# EAGLE library part HTOL_CARDEDGE (library connector)
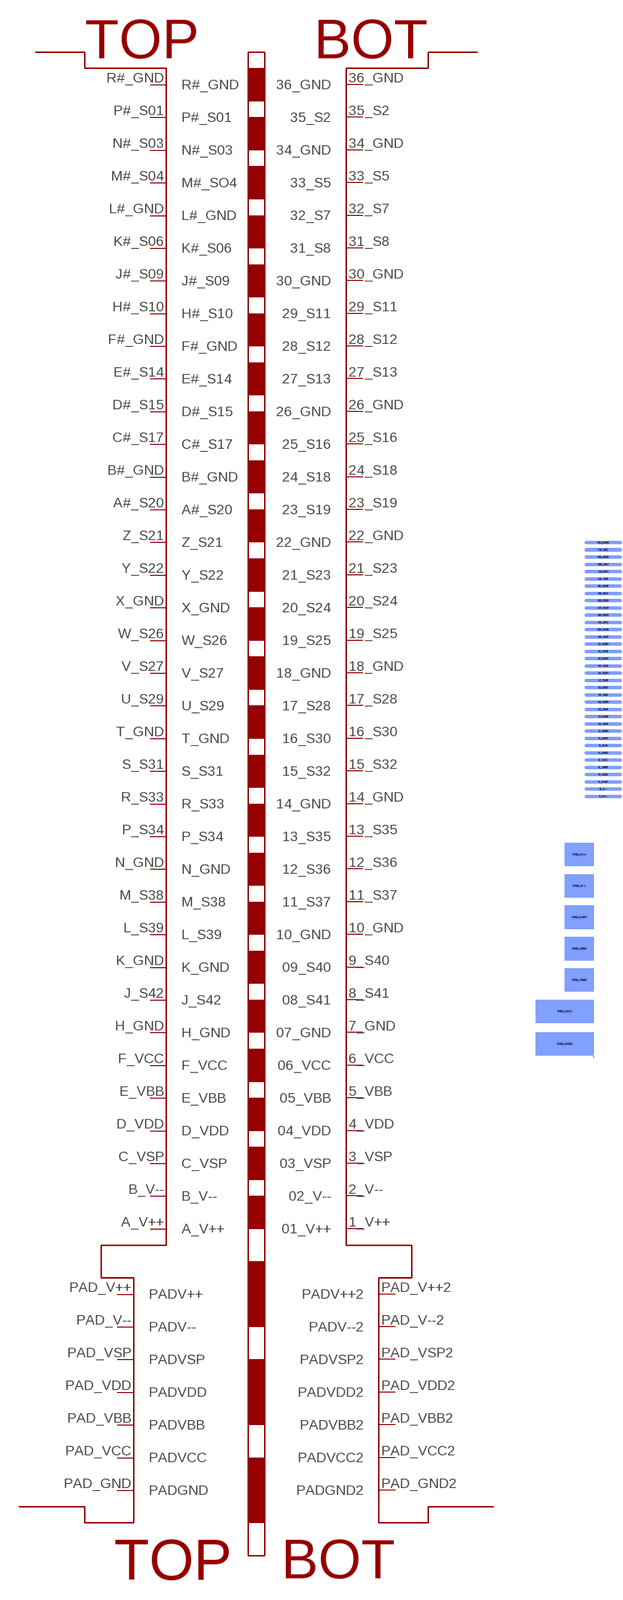
[diagram p10: symbol with the pads of HTOL_BOARD_EDGE; footprint HTOL_BOARD_EDGE]

Designator prefix -

## HTOL_CARDEDGEHOT_SIDE  [HTOL_BOARD_EDGE]
1_V++  01_V++
2_V--  02_V--
3_VSP  03_VSP
4_VDD  04_VDD
5_VBB  05_VBB
6_VCC  06_VCC
7_GND  07_GND
8_S41  08_S41
9_S40  09_S40
10_GND  10_GND
11_S37  11_S37
12_S36  12_S36
13_S35  13_S35
14_GND  14_GND
15_S32  15_S32
16_S30  16_S30
17_S28  17_S28
18_GND  18_GND
19_S25  19_S25
20_S24  20_S24
21_S23  21_S23
22_GND  22_GND
23_S19  23_S19
24_S18  24_S18
25_S16  25_S16
26_GND  26_GND
27_S13  27_S13
28_S12  28_S12
29_S11  29_S11
30_GND  30_GND
31_S8  31_S8
32_S7  32_S7
33_S5  33_S5
34_GND  34_GND
35_S2  35_S2
36_GND  36_GND
A#_S20  A#_S20
A_V++  A_V++
B#_GND  B#_GND
B_V--  B_V--
C#_S17  C#_S17
C_VSP  C_VSP
D#_S15  D#_S15
D_VDD  D_VDD
E#_S14  E#_S14
E_VBB  E_VBB
F#_GND  F#_GND
F_VCC  F_VCC
H#_S10  H#_S10
H_GND  H_GND
J#_S09  J#_S09
J_S42  J_S42
K#_S06  K#_S06
K_GND  K_GND
L#_GND  L#_GND
L_S39  L_S39
M#_S04  M#_SO4
M_S38  M_S38
N#_S03  N#_S03
N_GND  N_GND
P#_S01  P#_S01
P_S34  P_S34
PAD_GND  PADGND
PAD_GND2  PADGND2
PAD_V++  PADV++
PAD_V++2  PADV++2
PAD_V--  PADV--
PAD_V--2  PADV--2
PAD_VBB  PADVBB
PAD_VBB2  PADVBB2
PAD_VCC  PADVCC
PAD_VCC2  PADVCC2
PAD_VDD  PADVDD
PAD_VDD2  PADVDD2
PAD_VSP  PADVSP
PAD_VSP2  PADVSP2
R#_GND  R#_GND
R_S33  R_S33
S_S31  S_S31
T_GND  T_GND
U_S29  U_S29
V_S27  V_S27
W_S26  W_S26
X_GND  X_GND
Y_S22  Y_S22
Z_S21  Z_S21

## Footprint HTOL_BOARD_EDGE (pad centres in mm)
smd 20.32 x 1.905 bottom: 1_V++ 5.08,142.24; 2_V-- 5.08,146.202; 3_VSP 5.08,150.165; 4_VDD 5.08,154.127; 5_VBB 5.08,158.09; 6_VCC 5.08,162.052; 7_GND 5.08,166.014; 8_S41 5.08,169.977; 9_S40 5.08,173.939; 10_GND 5.08,177.902; 11_S37 5.08,181.864; 12_S36 5.08,185.826; 13_S35 5.08,189.789; 14_GND 5.08,193.751; 15_S32 5.08,197.714; 16_S30 5.08,201.676; 17_S28 5.08,205.638; 18_GND 5.08,209.601; 19_S25 5.08,213.563; 20_S24 5.08,217.526; 21_S23 5.08,221.488; 22_GND 5.08,225.45; 23_S19 5.08,229.413; 24_S18 5.08,233.375; 25_S16 5.08,237.338; 26_GND 5.08,241.3; 27_S13 5.08,245.262; 28_S12 5.08,249.225; 29_S11 5.08,253.187; 30_GND 5.08,257.15; 31_S8 5.08,261.112; 32_S7 5.08,265.074; 33_S5 5.08,269.037; 34_GND 5.08,272.999; 35_S2 5.08,276.962; 36_GND 5.08,280.924
smd 20.32 x 1.905: A#_S20 5.08,229.413; A_V++ 5.08,142.24; B#_GND 5.08,233.375; B_V-- 5.08,146.202; C#_S17 5.08,237.338; C_VSP 5.08,150.165; D#_S15 5.08,241.3; D_VDD 5.08,154.127; E#_S14 5.08,245.262; E_VBB 5.08,158.09; F#_GND 5.08,249.225; F_VCC 5.08,162.052; H#_S10 5.08,253.187; H_GND 5.08,166.014; J#_S09 5.08,257.15; J_S42 5.08,169.977; K#_S06 5.08,261.112; K_GND 5.08,173.939; L#_GND 5.08,265.074; L_S39 5.08,177.902; M#_S04 5.08,269.037; M_S38 5.08,181.864; N#_S03 5.08,272.999; N_GND 5.08,185.826; P#_S01 5.08,276.962; P_S34 5.08,189.789; R#_GND 5.08,280.924; R_S33 5.08,193.751; S_S31 5.08,197.714; T_GND 5.08,201.676; U_S29 5.08,205.638; V_S27 5.08,209.601; W_S26 5.08,213.563; X_GND 5.08,217.526; Y_S22 5.08,221.488; Z_S21 5.08,225.45
smd 31.75 x 12.7: PAD_GND -15.875,6.972; PAD_VCC -15.875,24.765
smd 31.75 x 12.7 bottom: PAD_GND2 -15.875,6.972; PAD_VCC2 -15.875,24.765
smd 15.875 x 12.7: PAD_V++ -7.938,110.477; PAD_V-- -7.938,93.345; PAD_VBB -7.938,41.897; PAD_VDD -7.938,59.03; PAD_VSP -7.938,76.213
smd 15.875 x 12.7 bottom: PAD_V++2 -7.938,110.477; PAD_V--2 -7.938,93.345; PAD_VBB2 -7.938,41.897; PAD_VDD2 -7.938,59.03; PAD_VSP2 -7.938,76.213